# EAGLE library part LM75-6PIN (library airball)
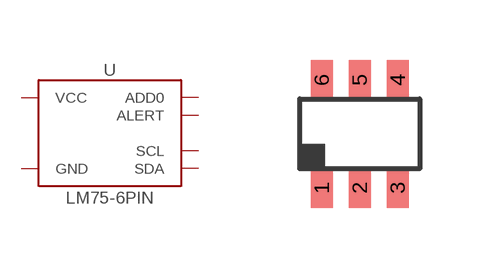
[diagram p8: symbol with the pads of SOT23-6; footprint SOT23-6]

Designator prefix -

## LM75-6PIN  [SOT23-6]
1  SCL  in
2  GND  pwr
3  ALERT  out
4  VCC  pwr
5  ADD0  in
6  SDA

## Footprint SOT23-6 (pad centres in mm)
smd 0.55 x 1: 1 -0.95,-1.35; 2 0,-1.35; 3 0.95,-1.35; 4 0.95,1.35; 5 0,1.35; 6 -0.95,1.35